# Altium schematic symbol library MotorControllerBoardV2(1).SchLib: 11 symbols
Pins are listed as number, name and electrical type; pins without a type are passive.

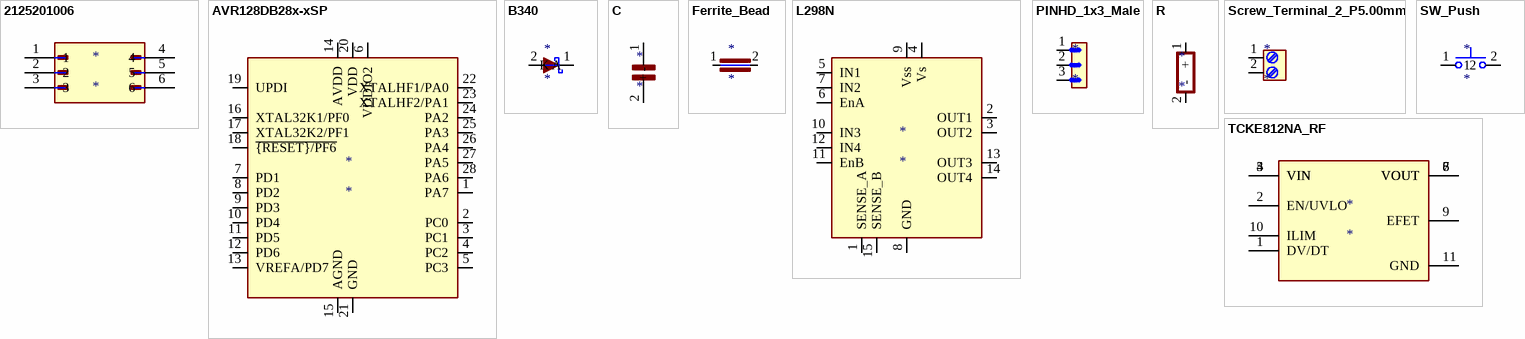
[diagram p0: symbols 2125201006 to TCKE812NA_RF]

## 2125201006
designator *
pins: 1, 2, 3, 4, 5, 6

## AVR128DB28x-xSP
designator *
pins: 1 PA7, 2 PC0, 3 PC1, 4 PC2, 5 PC3, 6 VDDIO2, 7 PD1, 8 PD2, 9 PD3, 10 PD4, 11 PD5, 12 PD6, 13 VREFA/PD7, 14 AVDD, 15 AGND, 16 XTAL32K1/PF0, 17 XTAL32K2/PF1, 18 ~{{RESET}/PF6}, 19 UPDI, 20 VDD, 21 GND, 22 XTALHF1/PA0, 23 XTALHF2/PA1, 24 PA2, 25 PA3, 26 PA4, 27 PA5, 28 PA6

## B340
designator *
pins: 1 K, 2 A
1 alternate drawing of the same symbol

## C
designator *
pins: 1 +, 2 -
1 alternate drawing of the same symbol

## Ferrite_Bead
designator *
pins: 1, 2

## L298N
designator *
pins: 1 SENSE_A, 2 OUT1, 3 OUT2, 4 Vs, 5 IN1, 6 EnA, 7 IN2, 8 GND, 9 Vss, 10 IN3, 11 EnB, 12 IN4, 13 OUT3, 14 OUT4, 15 SENSE_B

## PINHD_1x3_Male
designator *
pins: 1, 2, 3

## R
designator *
pins: 1 +, 2 -
3 alternate drawings of the same symbol

## Screw_Terminal_2_P5.00mm
designator *
pins: 1, 2

## SW_Push
designator *
pins: 1, 2

## TCKE812NA_RF
designator *
pins: 1 DV/DT, 2 EN/UVLO, 3 VIN, 4 VIN, 5 VIN, 6 VOUT, 7 VOUT, 8 VOUT, 9 EFET, 10 ILIM, 11 GND